# Altium integrated library PCB_Robo_Hand.IntLib: 8 symbols
Pins are listed as number, name and electrical type; pins without a type are passive.

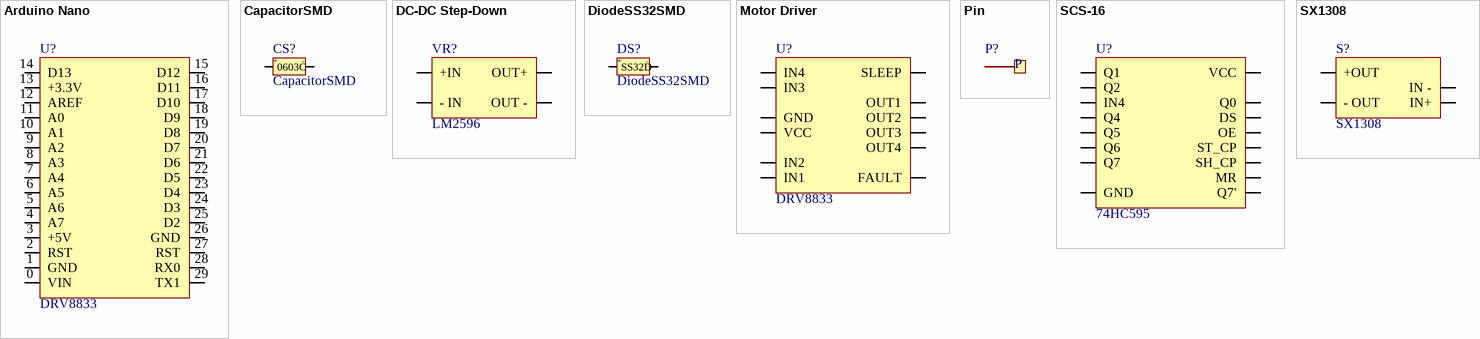
[diagram p0: symbols Arduino Nano to SX1308]

## Arduino Nano
designator U?, comment DRV8833  (no BOM)
DCCduino Nano CH340 - аналог Arduino Nano v3.0 TYPE C
footprint PCB_ATMega328p (Arduino Nano)
footprint PCB_DRV8833
pins: 0 VIN, 1 GND, 2 RST, 3 +5V, 4 A7, 5 A6, 6 A5, 7 A4, 8 A3, 9 A2, 10 A1, 11 A0, 12 AREF, 13 +3.3V, 14 D13, 15 D12, 16 D11, 17 D10, 18 D9, 19 D8, 20 D7, 21 D6, 22 D5, 23 D4, 24 D3, 25 D2, 26 GND, 27 RST, 28 RX0, 29 TX1

## CapacitorSMD
designator CS?
footprint CapacitorSMD
footprint CapacitorSMD
pins: 0 +, 1 -
text: 0603C

## DC-DC Step-Down
designator VR?, comment LM2596
DC-DC конвертер знижуючий 4.5...40В на 1.5...35В на LM2596
footprint DC-DC Step-Down Footprint
footprint DC-DC Step-Down Footprint
footprint DC-DC Step-Up Footprint
footprint DC-DC Step-Down Footprint
footprint DC-DC Step-Down Footprint
pins: 0 +IN (power), 1 - IN (power), 2 OUT+ (power), 3 OUT - (power)

## DiodeSS32SMD
designator DS?
footprint DiodeSS32SMD
pins: 0 +, 1 -
text: SS32D

## Motor Driver
designator U?, comment DRV8833  (no BOM)
Драйвер крокового/колекторних двигунів DRV8833
footprint PCB_DRV8833
pins: 0 IN1, 1 IN2, 2 VCC (power), 3 GND (power), 4 IN3, 5 IN4, 6 SLEEP, 7 OUT1, 8 OUT2, 9 OUT3, 10 OUT4, 11 FAULT

## Pin
designator P?  (value not drawn)
footprint P
footprint P
footprint P
pins: 0 *
text: P

## SCS-16
designator U?, comment 74HC595
SN74HC595N - вихідний зсувний регістр 74HC595
footprint PCB_74HC595_Footprint
pins: 0 GND (power), 1 Q7, 2 Q6, 3 Q5, 4 Q4, 5 IN4, 6 Q2, 7 Q1, 8 VCC (power), 9 Q0, 10 DS, 11 OE, 12 ST_CP, 13 SH_CP, 14 MR, 15 Q7'

## SX1308
designator S?
Модуль mini DC-DC Step-Up Converter 2.5...10V to 5V / 8V / 9V / 12V - это миниатюрный повышающий преобразователь постоянного тока на микросхеме импульсного преобразователя SX1308. / Выходное напряжение на преобразователе имеет четыре фиксированных настройки - 5В, 8В, 9В или 12В, одно из этих напряжений выбирается запайкой соответствующей комбинации перемычек A и B (по табличке на обратной стороне платы). / Максимальный выходной ток зависит от установленного выходного напряжения, при 5В он равен 1А, при 8В - 0.5А, 9В - 0,45А, 12В - 0.3А. Частота преобразования - 1.2 МГц. / На плате (со стороны Vout) светодиод - индикатор питания. По умолчанию он выключен. Для включения этого светодиода также нужно запаять соседнюю перемычку.
footprint DC-DC Step-Up Footprint
pins: 0 +OUT (power), 1 - OUT (power), 2 IN - (power), 3 IN+ (power)